# Altium integrated library NSC Audio.IntLib: 301 symbols (part 4 of 8)
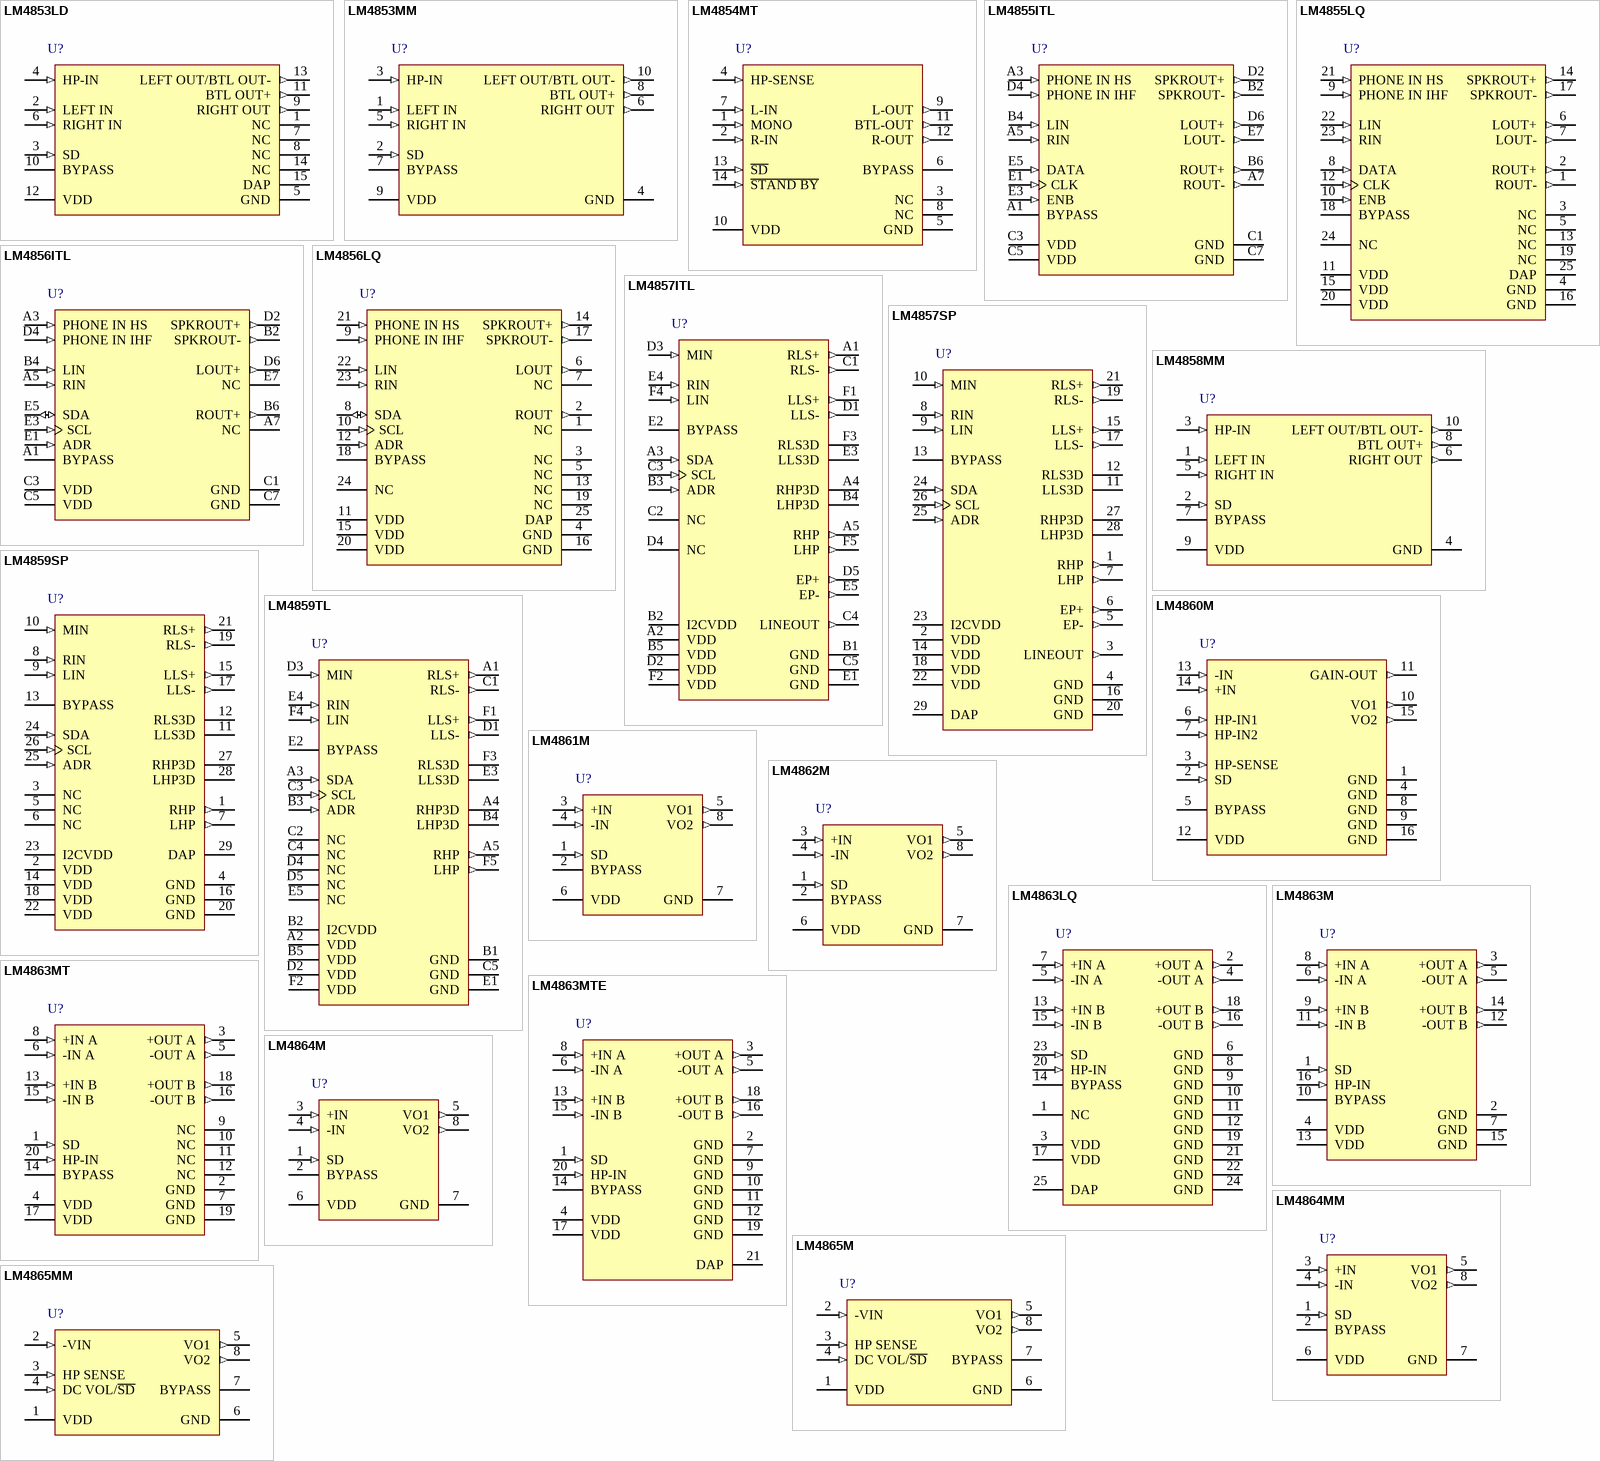
[diagram p15: symbols LM4853LD to LM4865MM]

## LM4859SP
designator U?
Stereo 1.2W Audio Sub-system with 3D Enhancement; PartNumber: LM4859SP; Manufacturer: National Semiconductor; CompType: Audio IC; PackageTopMarking: NS*UZXYTT*L4859SP; Published: 4-Dec-2008; DatasheetVersion: Jun-2005; PackageVersion: revA, Aug-2003; PackageReference: SPA28A; PackageDescription: LLP, Plastic, Quad, 5 x 5 x 0.6mm Body, 28 Lead, 0.5mm Pitch, No Pullback; RoHS: Y; PinCount: 28; DigiKeyPartNumber: LM4859SP-ND; Code_JEDEC: MO-220-WHHD-3; ComponentLink1Description: LM4859 Datasheet; ComponentLink1URL: http://www.national.com/ds/LM/LM4859.pdf; ComponentLink2Description: LM4859 Web Page; ComponentLink2URL: http://www.national.com/pf/LM/LM4859.html; ComponentLink3Description: SPA28A Package Page; ComponentLink3URL: http://www.national.com/packaging/folders/spa28a.html
footprint SPA28A (QFN, 28-Leads, Body 5x5mm, Pitch 0.5mm, NSC Recommended)
pins: 1 RHP (out), 2 VDD (power), 3 NC, 4 GND (power), 5 NC, 6 NC, 7 LHP (out), 8 RIN (in), 9 LIN (in), 10 MIN (in), 11 LLS3D, 12 RLS3D, 13 BYPASS, 14 VDD (power), 15 LLS+ (out), 16 GND (power), 17 LLS- (out), 18 VDD (power), 19 RLS- (out), 20 GND (power), 21 RLS+ (out), 22 VDD (power), 23 I2CVDD (power), 24 SDA (in), 25 ADR (in), 26 SCL (in), 27 RHP3D, 28 LHP3D, 29 DAP (power)

## LM4859TL
designator U?
Stereo 1.2W Audio Sub-system with 3D Enhancement; PartNumber: LM4859TL; Manufacturer: National Semiconductor; CompType: Audio IC; PackageTopMarking: XYTT*I GF1; Published: 4-Dec-2008; DatasheetVersion: Jun-2005; PackageVersion: revC, Dec-2003; PackageReference: TLA30CZA; PackageDescription: Thin Micro SMD, 30 Bump (Large), 0.5mm Pitch; RoHS: Y; PinCount: 30; DigiKeyPartNumber: LM4859TLCT-ND; Code_JEDEC: MO-211-DJ; ComponentLink1Description: LM4859 Datasheet; ComponentLink1URL: http://www.national.com/ds/LM/LM4859.pdf; ComponentLink2Description: LM4859 Web Page; ComponentLink2URL: http://www.national.com/pf/LM/LM4859.html; ComponentLink3Description: TLA30CZA Package Page; ComponentLink3URL: http://www.national.com/packaging/folders/tla30cza.html
footprint TLA30CZA (Micro SMD, 30-Leads, Body 2.95x2.55mm, Pitch 0.5mm, NSC Recommended)
pins: A1 RLS+ (out), A2 VDD (power), A3 SDA (in), A4 RHP3D, A5 RHP (out), B1 GND (power), B2 I2CVDD (power), B3 ADR (in), B4 LHP3D, B5 VDD (power), C1 RLS- (out), C2 NC, C3 SCL (in), C4 NC, C5 GND (power), D1 LLS- (out), D2 VDD (power), D3 MIN (in), D4 NC, D5 NC, E1 GND (power), E2 BYPASS, E3 LLS3D, E4 RIN (in), E5 NC, F1 LLS+ (out), F2 VDD (power), F3 RLS3D, F4 LIN (in), F5 LHP (out)

## LM4860M
designator U?
1 Watt Audio Power Amplifier with Shutdown Mode; PartNumber: LM4860M; Manufacturer: National Semiconductor; CompType: Audio IC; PackageTopMarking: NSUZXYTT*LM4860M; Published: 4-Dec-2008; DatasheetVersion: Aug-2000; PackageVersion: revJ, Aug-1995; PackageReference: M16A; PackageDescription: Molded Package, SO, .150in Wide, 16 Lead; RoHS: O; PinCount: 16; DigiKeyPartNumber: LM4860M-ND; Code_JEDEC: MS-012-AC; Code_IPC: SOIC127P600-16; ComponentLink1Description: LM4860 Datasheet; ComponentLink1URL: http://www.national.com/ds/LM/LM4860.pdf; ComponentLink2Description: LM4860 Web Page; ComponentLink2URL: http://www.national.com/pf/LM/LM4860.html; ComponentLink3Description: M16A Package Page; ComponentLink3URL: http://www.national.com/packaging/folders/m16a.html
footprint M16A_N (SOIC, 16-Leads, Body 9.9x3.9mm, Pitch 1.27mm, IPC Medium Density)
footprint M16A_L (SOIC, 16-Leads, Body 9.9x3.9mm, Pitch 1.27mm, IPC High Density)
footprint M16A_M (SOIC, 16-Leads, Body 9.9x3.9mm, Pitch 1.27mm, IPC Low Density)
pins: 1 GND (power), 2 SD (in), 3 HP-SENSE (in), 4 GND (power), 5 BYPASS, 6 HP-IN1 (in), 7 HP-IN2 (in), 8 GND (power), 9 GND (power), 10 VO1 (out), 11 GAIN-OUT (out), 12 VDD (power), 13 -IN (in), 14 +IN (in), 15 VO2 (out), 16 GND (power)

## LM4861M
designator U?
1.1W Audio Power Amplifier with Shutdown Mode; PartNumber: LM4861M; Manufacturer: National Semiconductor; CompType: Audio IC; PackageTopMarking: NSZXTT*LM*4861M; Published: 4-Dec-2008; DatasheetVersion: Feb-2003; PackageVersion: revL, Sep-2006; PackageReference: M08A; PackageDescription: SOIC Narrow, 4.9 x 3.9 x 1.45mm, 8 Lead, 1.27mm Pitch; RoHS: O; PinCount: 8; DigiKeyPartNumber: LM4861M-ND; Code_JEDEC: MS-012-AA; Code_IPC: SOIC127P600-8; ComponentLink1Description: LM4861 Datasheet; ComponentLink1URL: http://www.national.com/ds/LM/LM4861.pdf; ComponentLink2Description: LM4861 Web Page; ComponentLink2URL: http://www.national.com/pf/LM/LM4861.html; ComponentLink3Description: M08A Package Page; ComponentLink3URL: http://www.national.com/packaging/folders/m08a.html
footprint M08A_N (SOIC, 8-Leads, Body 4.9x3.9mm, Pitch 1.27mm, IPC Medium Density)
footprint M08A_L (SOIC, 8-Leads, Body 4.9x3.9mm, Pitch 1.27mm, IPC High Density)
footprint M08A_M (SOIC, 8-Leads, Body 4.9x3.9mm, Pitch 1.27mm, IPC Low Density)
pins: 1 SD (in), 2 BYPASS, 3 +IN (in), 4 -IN (in), 5 VO1 (out), 6 VDD (power), 7 GND (power), 8 VO2 (out)

## LM4862M
designator U?
675 mW Audio Power Amplifier with Shutdown Mode; PartNumber: LM4862M; Manufacturer: National Semiconductor; CompType: Audio IC; PackageTopMarking: NSZXTT*LM*4862M; Published: 4-Dec-2008; DatasheetVersion: Sep-2004; PackageVersion: revL, Sep-2006; PackageReference: M08A; PackageDescription: SOIC Narrow, 4.9 x 3.9 x 1.45mm, 8 Lead, 1.27mm Pitch; RoHS: Y; PinCount: 8; DigiKeyPartNumber: LM4862M-ND; Code_JEDEC: MS-012-AA; Code_IPC: SOIC127P600-8; ComponentLink1Description: LM4862 Datasheet; ComponentLink1URL: http://www.national.com/ds/LM/LM4862.pdf; ComponentLink2Description: LM4862 Web Page; ComponentLink2URL: http://www.national.com/pf/LM/LM4862.html; ComponentLink3Description: M08A Package Page; ComponentLink3URL: http://www.national.com/packaging/folders/m08a.html
footprint M08A_N (SOIC, 8-Leads, Body 4.9x3.9mm, Pitch 1.27mm, IPC Medium Density)
footprint M08A_L (SOIC, 8-Leads, Body 4.9x3.9mm, Pitch 1.27mm, IPC High Density)
footprint M08A_M (SOIC, 8-Leads, Body 4.9x3.9mm, Pitch 1.27mm, IPC Low Density)
pins: 1 SD (in), 2 BYPASS, 3 +IN (in), 4 -IN (in), 5 VO1 (out), 6 VDD (power), 7 GND (power), 8 VO2 (out)

## LM4863LQ
designator U?
Dual 2.2W Audio Amplifier Plus Stereo Headphone Function; PartNumber: LM4863LQ; Manufacturer: National Semiconductor; CompType: Audio IC; PackageTopMarking: NS*UZXYTT*L4863; Published: 4-Dec-2008; DatasheetVersion: Oct-2006; PackageVersion: revB, Sep-2003; PackageReference: LQA24A; PackageDescription: LLP, Plastic, Quad, 5 x 4 x 0.8mm Body, 24 Lead, 0.5mm Pitch; RoHS: Y; PinCount: 24; DigiKeyPartNumber: LM4863LQCT-ND; ComponentLink1Description: LM4863 Datasheet; ComponentLink1URL: http://www.national.com/ds/LM/LM4863.pdf; ComponentLink2Description: LM4863 Web Page; ComponentLink2URL: http://www.national.com/pf/LM/LM4863.html; ComponentLink3Description: LQA24A Package Page; ComponentLink3URL: http://www.national.com/packaging/folders/lqa24a.html
footprint LQA24A (PQFN, 24-Leads, Body 4x5mm, Pitch 0.5mm, NSC Recommended)
pins: 1 NC, 2 +OUT A (out), 3 VDD (power), 4 -OUT A (out), 5 -IN A (in), 6 GND (power), 7 +IN A (in), 8 GND (power), 9 GND (power), 10 GND (power), 11 GND (power), 12 GND (power), 13 +IN B (in), 14 BYPASS, 15 -IN B (in), 16 -OUT B (out), 17 VDD (power), 18 +OUT B (out), 19 GND (power), 20 HP-IN (in), 21 GND (power), 22 GND (power), 23 SD (in), 24 GND (power), 25 DAP (power)

## LM4863M
designator U?
Dual 2.2W Audio Amplifier Plus Stereo Headphone Function; PartNumber: LM4863M; Manufacturer: National Semiconductor; CompType: Audio IC; PackageTopMarking: NSUZXYTT*LM4863M; Published: 4-Dec-2008; DatasheetVersion: Oct-2006; PackageVersion: revF, Apr-1990; PackageReference: M16B; PackageDescription: Molded Package, S.O., .300in Wide, 16 Lead; RoHS: Y; PinCount: 16; DigiKeyPartNumber: LM4863M-ND; Code_JEDEC: MS-013-AA; Code_IPC: SOIC127P1030-16; ComponentLink1Description: LM4863 Datasheet; ComponentLink1URL: http://www.national.com/ds/LM/LM4863.pdf; ComponentLink2Description: LM4863 Web Page; ComponentLink2URL: http://www.national.com/pf/LM/LM4863.html; ComponentLink3Description: M16B Package Page; ComponentLink3URL: http://www.national.com/packaging/folders/m16b.html
footprint M16B_N (SOIC, 16-Leads, Body 10.3x7.5mm, Pitch 1.27mm, IPC Medium Density)
footprint M16B_L (SOIC, 16-Leads, Body 10.3x7.5mm, Pitch 1.27mm, IPC High Density)
footprint M16B_M (SOIC, 16-Leads, Body 10.3x7.5mm, Pitch 1.27mm, IPC Low Density)
pins: 1 SD (in), 2 GND (power), 3 +OUT A (out), 4 VDD (power), 5 -OUT A (out), 6 -IN A (in), 7 GND (power), 8 +IN A (in), 9 +IN B (in), 10 BYPASS, 11 -IN B (in), 12 -OUT B (out), 13 VDD (power), 14 +OUT B (out), 15 GND (power), 16 HP-IN (in)

## LM4863MT
designator U?
Dual 2.2W Audio Amplifier Plus Stereo Headphone Function; PartNumber: LM4863MT; Manufacturer: National Semiconductor; CompType: Audio IC; PackageTopMarking: NSUZXYTT*LM4863*MT; Published: 4-Dec-2008; DatasheetVersion: Oct-2006; PackageVersion: revE, Mar-2003; PackageReference: MTC20; PackageDescription: Molded TSSOP, Jedec, 6.5 x 4.4 x 0.9mm Body, 20 Lead, 0.65mm Pitch; RoHS: Y; PinCount: 20; DigiKeyPartNumber: LM4863MT-ND; Code_JEDEC: MO-153-AC; ComponentLink1Description: LM4863 Datasheet; ComponentLink1URL: http://www.national.com/ds/LM/LM4863.pdf; ComponentLink2Description: LM4863 Web Page; ComponentLink2URL: http://www.national.com/pf/LM/LM4863.html; ComponentLink3Description: MTC20 Package Page; ComponentLink3URL: http://www.national.com/packaging/folders/mtc20.html
footprint MTC20_N (TSOP, 20-Leads, Body 6.5x4.4mm, Pitch 0.65mm, IPC Medium Density)
footprint MTC20_L (TSOP, 20-Leads, Body 6.5x4.4mm, Pitch 0.65mm, IPC High Density)
footprint MTC20_M (TSOP, 20-Leads, Body 6.5x4.4mm, Pitch 0.65mm, IPC Low Density)
pins: 1 SD (in), 2 GND (power), 3 +OUT A (out), 4 VDD (power), 5 -OUT A (out), 6 -IN A (in), 7 GND (power), 8 +IN A (in), 9 NC, 10 NC, 11 NC, 12 NC, 13 +IN B (in), 14 BYPASS, 15 -IN B (in), 16 -OUT B (out), 17 VDD (power), 18 +OUT B (out), 19 GND (power), 20 HP-IN (in)

## LM4863MTE
designator U?
Dual 2.2W Audio Amplifier Plus Stereo Headphone Function; PartNumber: LM4863MTE; Manufacturer: National Semiconductor; CompType: Audio IC; PackageTopMarking: NSUZXYTT*LM4863*MTE; Published: 4-Dec-2008; DatasheetVersion: Oct-2006; PackageVersion: revC, Jul-2006; PackageReference: MXA20A; PackageDescription: Molded TSSOP, Jedec, 6.5 x 4.4 x 0.9mm Body, 20 Lead, 0.65mm Pitch, Exposed Pad; RoHS: Y; PinCount: 20; DigiKeyPartNumber: LM4863MTE-ND; Code_JEDEC: MO-153-ACT; ComponentLink1Description: LM4863 Datasheet; ComponentLink1URL: http://www.national.com/ds/LM/LM4863.pdf; ComponentLink2Description: LM4863 Web Page; ComponentLink2URL: http://www.national.com/pf/LM/LM4863.html; ComponentLink3Description: MXA20A Package Page; ComponentLink3URL: http://www.national.com/packaging/folders/mxa20a.html
footprint MXA20A_N (TSOP, 20-Leads, Body 6.5x4.4mm, Pitch 0.65mm, Exposed Pad, IPC Medium Density)
footprint MXA20A_L (TSOP, 20-Leads, Body 6.5x4.4mm, Pitch 0.65mm, Exposed Pad, IPC High Density)
footprint MXA20A_M (TSOP, 20-Leads, Body 6.5x4.4mm, Pitch 0.65mm, Exposed Pad, IPC Low Density)
pins: 1 SD (in), 2 GND (power), 3 +OUT A (out), 4 VDD (power), 5 -OUT A (out), 6 -IN A (in), 7 GND (power), 8 +IN A (in), 9 GND (power), 10 GND (power), 11 GND (power), 12 GND (power), 13 +IN B (in), 14 BYPASS, 15 -IN B (in), 16 -OUT B (out), 17 VDD (power), 18 +OUT B (out), 19 GND (power), 20 HP-IN (in), 21 DAP (power)

## LM4864M
designator U?
300 mW Audio Power Amplifier with Shutdown Mode; PartNumber: LM4864M; Manufacturer: National Semiconductor; CompType: Audio IC; PackageTopMarking: NSZXTT*LM48*64M; Published: 4-Dec-2008; DatasheetVersion: Sep-2004; PackageVersion: revL, Sep-2006; PackageReference: M08A; PackageDescription: SOIC Narrow, 4.9 x 3.9 x 1.45mm, 8 Lead, 1.27mm Pitch; RoHS: O; PinCount: 8; DigiKeyPartNumber: LM4864M-ND; Code_JEDEC: MS-012-AA; Code_IPC: SOIC127P600-8; ComponentLink1Description: LM4864 Datasheet; ComponentLink1URL: http://www.national.com/ds/LM/LM4864.pdf; ComponentLink2Description: LM4864 Web Page; ComponentLink2URL: http://www.national.com/pf/LM/LM4864.html; ComponentLink3Description: M08A Package Page; ComponentLink3URL: http://www.national.com/packaging/folders/m08a.html
footprint M08A_N (SOIC, 8-Leads, Body 4.9x3.9mm, Pitch 1.27mm, IPC Medium Density)
footprint M08A_L (SOIC, 8-Leads, Body 4.9x3.9mm, Pitch 1.27mm, IPC High Density)
footprint M08A_M (SOIC, 8-Leads, Body 4.9x3.9mm, Pitch 1.27mm, IPC Low Density)
pins: 1 SD (in), 2 BYPASS, 3 +IN (in), 4 -IN (in), 5 VO1 (out), 6 VDD (power), 7 GND (power), 8 VO2 (out)

## LM4864MM
designator U?
300 mW Audio Power Amplifier with Shutdown Mode; PartNumber: LM4864MM; Manufacturer: National Semiconductor; CompType: Audio IC; PackageTopMarking: ZXTT*Z64; Published: 4-Dec-2008; DatasheetVersion: Sep-2004; PackageVersion: revF, Apr-2008; PackageReference: MUA08A; PackageDescription: MINI SOIC, .118 x .118 x .034in, 8 Lead, .0256in Pitch; RoHS: Y; PinCount: 8; DigiKeyPartNumber: LM4864MMCT-ND; Code_JEDEC: MO-187-AA; ComponentLink1Description: LM4864 Datasheet; ComponentLink1URL: http://www.national.com/ds/LM/LM4864.pdf; ComponentLink2Description: LM4864 Web Page; ComponentLink2URL: http://www.national.com/pf/LM/LM4864.html; ComponentLink3Description: MUA08A Package Page; ComponentLink3URL: http://www.national.com/packaging/folders/mua08a.html
footprint MUA08A_N (TSOP, 8-Leads, Body 3x3mm, Pitch 0.65mm, IPC Medium Density)
footprint MUA08A_L (TSOP, 8-Leads, Body 3x3mm, Pitch 0.65mm, IPC High Density)
footprint MUA08A_M (TSOP, 8-Leads, Body 3x3mm, Pitch 0.65mm, IPC Low Density)
pins: 1 SD (in), 2 BYPASS, 3 +IN (in), 4 -IN (in), 5 VO1 (out), 6 VDD (power), 7 GND (power), 8 VO2 (out)

## LM4865M
designator U?
750mW Audio Power Amplifier with DC Volume Control and Headphone Switch; PartNumber: LM4865M; Manufacturer: National Semiconductor; CompType: Audio IC; PackageTopMarking: NSZXTT*LM48*65M; Published: 4-Dec-2008; DatasheetVersion: Oct-2002; PackageVersion: revL, Sep-2006; PackageReference: M08A; PackageDescription: SOIC Narrow, 4.9 x 3.9 x 1.45mm, 8 Lead, 1.27mm Pitch; RoHS: Y; PinCount: 8; DigiKeyPartNumber: LM4865M-ND; Code_JEDEC: MS-012-AA; Code_IPC: SOIC127P600-8; ComponentLink1Description: LM4865 Datasheet; ComponentLink1URL: http://www.national.com/ds/LM/LM4865.pdf; ComponentLink2Description: LM4865 Web Page; ComponentLink2URL: http://www.national.com/pf/LM/LM4865.html; ComponentLink3Description: M08A Package Page; ComponentLink3URL: http://www.national.com/packaging/folders/m08a.html
footprint M08A_N (SOIC, 8-Leads, Body 4.9x3.9mm, Pitch 1.27mm, IPC Medium Density)
footprint M08A_L (SOIC, 8-Leads, Body 4.9x3.9mm, Pitch 1.27mm, IPC High Density)
footprint M08A_M (SOIC, 8-Leads, Body 4.9x3.9mm, Pitch 1.27mm, IPC Low Density)
pins: 1 VDD (power), 2 -VIN (in), 3 HP SENSE (in), 4 DC VOL/~{SD} (in), 5 VO1 (out), 6 GND (power), 7 BYPASS, 8 VO2 (out)

## LM4865MM
designator U?
750mW Audio Power Amplifier with DC Volume Control and Headphone Switch; PartNumber: LM4865MM; Manufacturer: National Semiconductor; CompType: Audio IC; PackageTopMarking: ZXTT*Z65; Published: 4-Dec-2008; DatasheetVersion: Oct-2002; PackageVersion: revF, Apr-2008; PackageReference: MUA08A; PackageDescription: MINI SOIC, .118 x .118 x .034in, 8 Lead, .0256in Pitch; RoHS: Y; PinCount: 8; DigiKeyPartNumber: LM4865MMCT-ND; Code_JEDEC: MO-187-AA; ComponentLink1Description: LM4865 Datasheet; ComponentLink1URL: http://www.national.com/ds/LM/LM4865.pdf; ComponentLink2Description: LM4865 Web Page; ComponentLink2URL: http://www.national.com/pf/LM/LM4865.html; ComponentLink3Description: MUA08A Package Page; ComponentLink3URL: http://www.national.com/packaging/folders/mua08a.html
footprint MUA08A_N (TSOP, 8-Leads, Body 3x3mm, Pitch 0.65mm, IPC Medium Density)
footprint MUA08A_L (TSOP, 8-Leads, Body 3x3mm, Pitch 0.65mm, IPC High Density)
footprint MUA08A_M (TSOP, 8-Leads, Body 3x3mm, Pitch 0.65mm, IPC Low Density)
pins: 1 VDD (power), 2 -VIN (in), 3 HP SENSE (in), 4 DC VOL/~{SD} (in), 5 VO1 (out), 6 GND (power), 7 BYPASS, 8 VO2 (out)

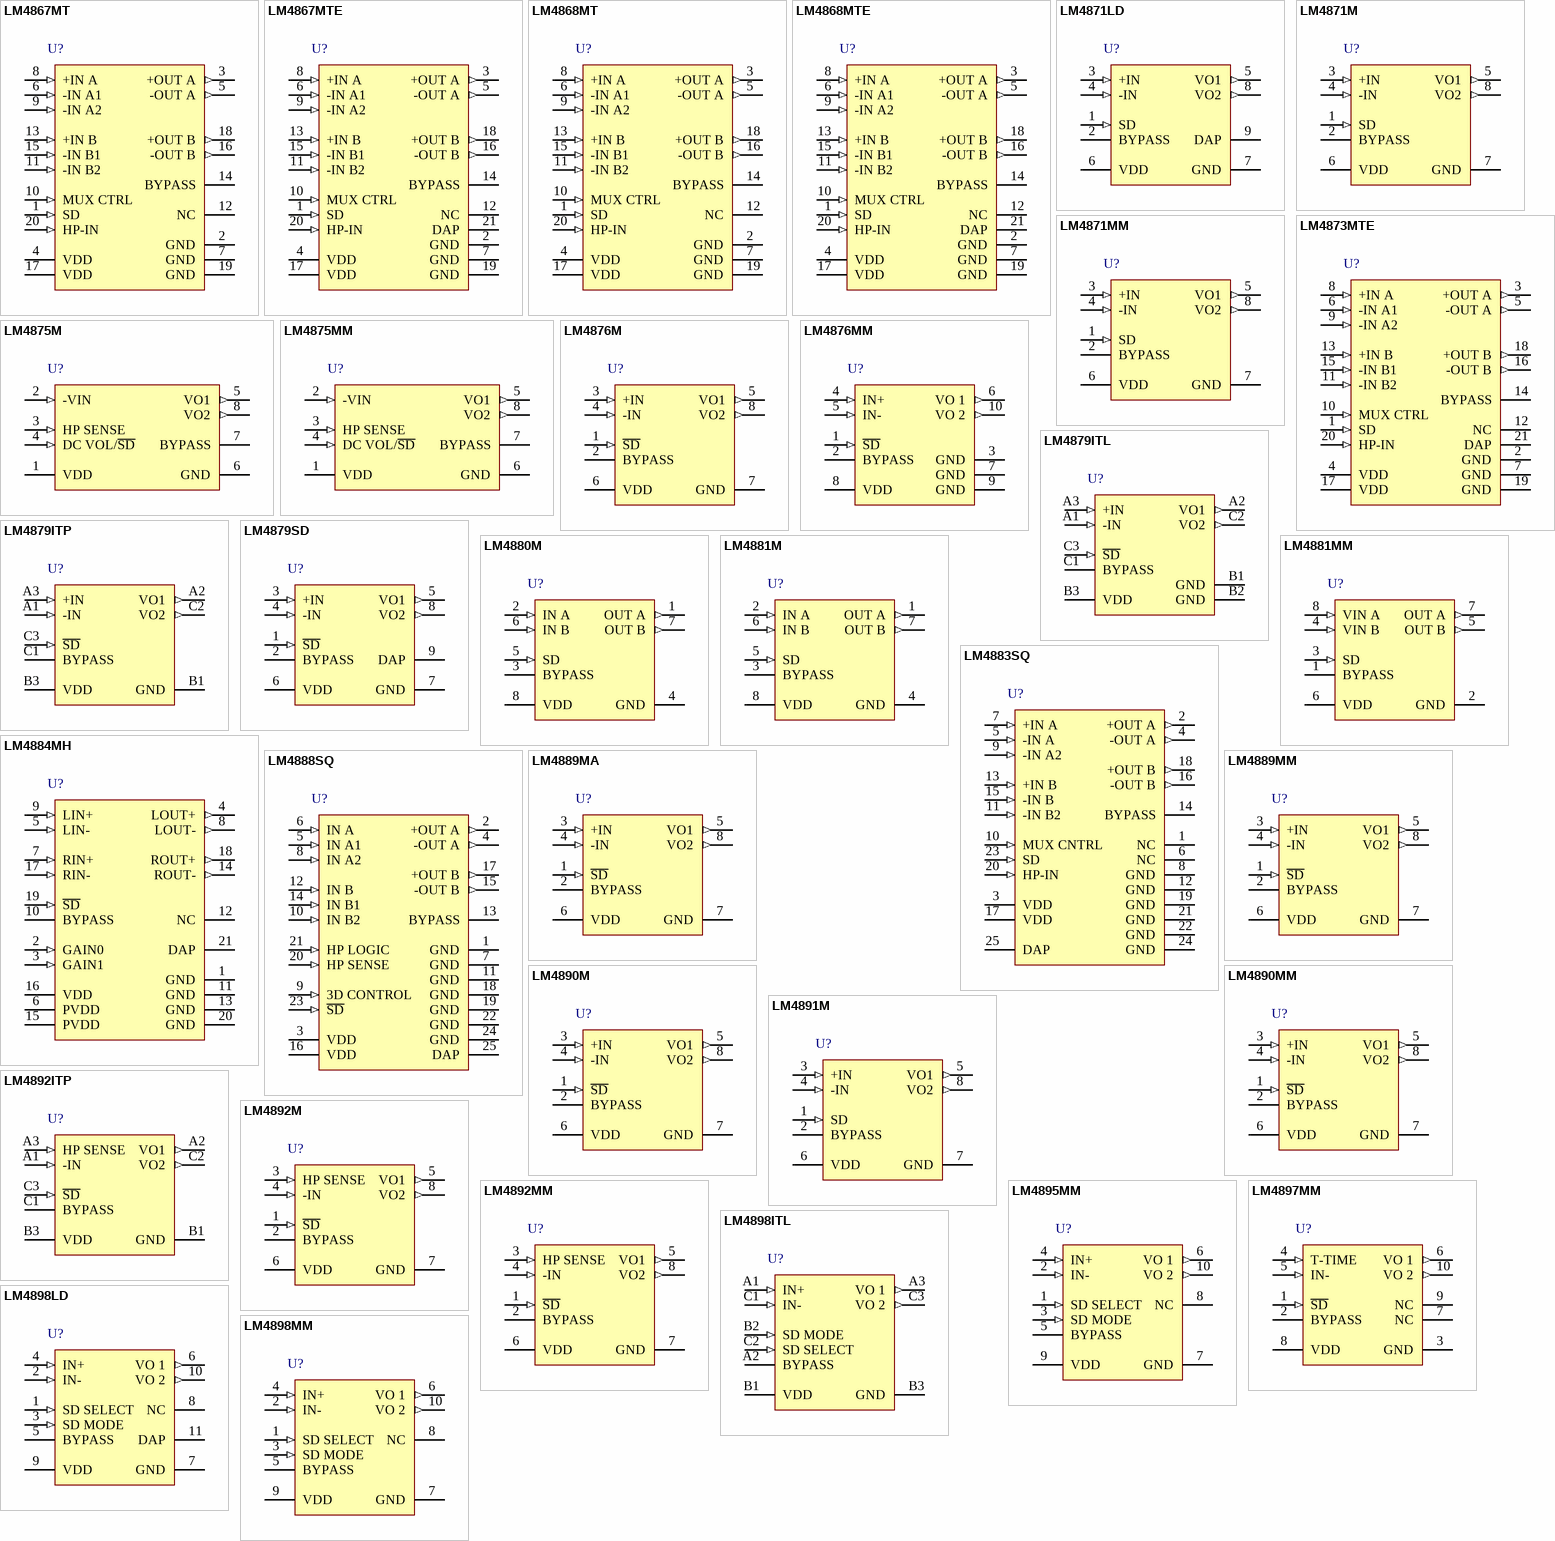
[diagram p6: symbols LM4867MT to LM4898MM]

## LM4867MT
designator U?
Output-Transient-Free Dual 2.1W Audio Amplifier Plus No Coupling Capacitor Stereo Headphone Function; PartNumber: LM4867MT; Manufacturer: National Semiconductor; CompType: Audio IC; PackageTopMarking: NSUZXYTT*LM4867*MT; Published: 4-Dec-2008; DatasheetVersion: Aug-2002; PackageVersion: revE, Mar-2003; PackageReference: MTC20; PackageDescription: Molded TSSOP, Jedec, 6.5 x 4.4 x 0.9mm Body, 20 Lead, 0.65mm Pitch; RoHS: Y; PinCount: 20; DigiKeyPartNumber: LM4867MT-ND; Code_JEDEC: MO-153-AC; ComponentLink1Description: LM4867 Datasheet; ComponentLink1URL: http://www.national.com/ds/LM/LM4867.pdf; ComponentLink2Description: LM4867 Web Page; ComponentLink2URL: http://www.national.com/pf/LM/LM4867.html; ComponentLink3Description: MTC20 Package Page; ComponentLink3URL: http://www.national.com/packaging/folders/mtc20.html
footprint MTC20_N (TSOP, 20-Leads, Body 6.5x4.4mm, Pitch 0.65mm, IPC Medium Density)
footprint MTC20_L (TSOP, 20-Leads, Body 6.5x4.4mm, Pitch 0.65mm, IPC High Density)
footprint MTC20_M (TSOP, 20-Leads, Body 6.5x4.4mm, Pitch 0.65mm, IPC Low Density)
pins: 1 SD (in), 2 GND (power), 3 +OUT A (out), 4 VDD (power), 5 -OUT A (out), 6 -IN A1 (in), 7 GND (power), 8 +IN A (in), 9 -IN A2 (in), 10 MUX CTRL (in), 11 -IN B2 (in), 12 NC, 13 +IN B (in), 14 BYPASS, 15 -IN B1 (in), 16 -OUT B (out), 17 VDD (power), 18 +OUT B (out), 19 GND (power), 20 HP-IN (in)

## LM4867MTE
designator U?
Output-Transient-Free Dual 2.1W Audio Amplifier Plus No Coupling Capacitor Stereo Headphone Function; PartNumber: LM4867MTE; Manufacturer: National Semiconductor; CompType: Audio IC; PackageTopMarking: NSUZXYTT*LM4867*MTE; Published: 4-Dec-2008; DatasheetVersion: Aug-2002; PackageVersion: revC, Jul-2006; PackageReference: MXA20A; PackageDescription: Molded TSSOP, Jedec, 6.5 x 4.4 x 0.9mm Body, 20 Lead, 0.65mm Pitch, Exposed Pad; RoHS: O; PinCount: 20; DigiKeyPartNumber: LM4867MTE-ND; Code_JEDEC: MO-153-ACT; ComponentLink1Description: LM4867 Datasheet; ComponentLink1URL: http://www.national.com/ds/LM/LM4867.pdf; ComponentLink2Description: LM4867 Web Page; ComponentLink2URL: http://www.national.com/pf/LM/LM4867.html; ComponentLink3Description: MXA20A Package Page; ComponentLink3URL: http://www.national.com/packaging/folders/mxa20a.html
footprint MXA20A_N (TSOP, 20-Leads, Body 6.5x4.4mm, Pitch 0.65mm, Exposed Pad, IPC Medium Density)
footprint MXA20A_L (TSOP, 20-Leads, Body 6.5x4.4mm, Pitch 0.65mm, Exposed Pad, IPC High Density)
footprint MXA20A_M (TSOP, 20-Leads, Body 6.5x4.4mm, Pitch 0.65mm, Exposed Pad, IPC Low Density)
pins: 1 SD (in), 2 GND (power), 3 +OUT A (out), 4 VDD (power), 5 -OUT A (out), 6 -IN A1 (in), 7 GND (power), 8 +IN A (in), 9 -IN A2 (in), 10 MUX CTRL (in), 11 -IN B2 (in), 12 NC, 13 +IN B (in), 14 BYPASS, 15 -IN B1 (in), 16 -OUT B (out), 17 VDD (power), 18 +OUT B (out), 19 GND (power), 20 HP-IN (in), 21 DAP (power)

## LM4868MT
designator U?
Output-Transient-Free Dual 2.1W Audio Amplifier Plus No Coupling Capacitor Stereo Headphone Function; PartNumber: LM4868MT; Manufacturer: National Semiconductor; CompType: Audio IC; PackageTopMarking: NSUZXYTT*LM4868*MT; Published: 4-Dec-2008; DatasheetVersion: Aug-2002; PackageVersion: revE, Mar-2003; PackageReference: MTC20; PackageDescription: Molded TSSOP, Jedec, 6.5 x 4.4 x 0.9mm Body, 20 Lead, 0.65mm Pitch; RoHS: Y; PinCount: 20; DigiKeyPartNumber: LM4868MT-ND; Code_JEDEC: MO-153-AC; ComponentLink1Description: LM4868 Datasheet; ComponentLink1URL: http://www.national.com/ds/LM/LM4868.pdf; ComponentLink2Description: LM4868 Web Page; ComponentLink2URL: http://www.national.com/pf/LM/LM4868.html; ComponentLink3Description: MTC20 Package Page; ComponentLink3URL: http://www.national.com/packaging/folders/mtc20.html
footprint MTC20_N (TSOP, 20-Leads, Body 6.5x4.4mm, Pitch 0.65mm, IPC Medium Density)
footprint MTC20_L (TSOP, 20-Leads, Body 6.5x4.4mm, Pitch 0.65mm, IPC High Density)
footprint MTC20_M (TSOP, 20-Leads, Body 6.5x4.4mm, Pitch 0.65mm, IPC Low Density)
pins: 1 SD (in), 2 GND (power), 3 +OUT A (out), 4 VDD (power), 5 -OUT A (out), 6 -IN A1 (in), 7 GND (power), 8 +IN A (in), 9 -IN A2 (in), 10 MUX CTRL (in), 11 -IN B2 (in), 12 NC, 13 +IN B (in), 14 BYPASS, 15 -IN B1 (in), 16 -OUT B (out), 17 VDD (power), 18 +OUT B (out), 19 GND (power), 20 HP-IN (in)

## LM4868MTE
designator U?
Output-Transient-Free Dual 2.1W Audio Amplifier Plus No Coupling Capacitor Stereo Headphone Function; PartNumber: LM4868MTE; Manufacturer: National Semiconductor; CompType: Audio IC; PackageTopMarking: NSUZXYTT*LM4868*MTE; Published: 4-Dec-2008; DatasheetVersion: Aug-2002; PackageVersion: revC, Jul-2006; PackageReference: MXA20A; PackageDescription: Molded TSSOP, Jedec, 6.5 x 4.4 x 0.9mm Body, 20 Lead, 0.65mm Pitch, Exposed Pad; RoHS: Y; PinCount: 20; DigiKeyPartNumber: LM4868MTE-ND; Code_JEDEC: MO-153-ACT; ComponentLink1Description: LM4868 Datasheet; ComponentLink1URL: http://www.national.com/ds/LM/LM4868.pdf; ComponentLink2Description: LM4868 Web Page; ComponentLink2URL: http://www.national.com/pf/LM/LM4868.html; ComponentLink3Description: MXA20A Package Page; ComponentLink3URL: http://www.national.com/packaging/folders/mxa20a.html
footprint MXA20A_N (TSOP, 20-Leads, Body 6.5x4.4mm, Pitch 0.65mm, Exposed Pad, IPC Medium Density)
footprint MXA20A_L (TSOP, 20-Leads, Body 6.5x4.4mm, Pitch 0.65mm, Exposed Pad, IPC High Density)
footprint MXA20A_M (TSOP, 20-Leads, Body 6.5x4.4mm, Pitch 0.65mm, Exposed Pad, IPC Low Density)
pins: 1 SD (in), 2 GND (power), 3 +OUT A (out), 4 VDD (power), 5 -OUT A (out), 6 -IN A1 (in), 7 GND (power), 8 +IN A (in), 9 -IN A2 (in), 10 MUX CTRL (in), 11 -IN B2 (in), 12 NC, 13 +IN B (in), 14 BYPASS, 15 -IN B1 (in), 16 -OUT B (out), 17 VDD (power), 18 +OUT B (out), 19 GND (power), 20 HP-IN (in), 21 DAP (power)

## LM4871LD
designator U?
3W Audio Power Amplifier with Shutdown Mode; PartNumber: LM4871LD; Manufacturer: National Semiconductor; CompType: Audio IC; PackageTopMarking: NS*UZXYTT*L4871; Published: 4-Dec-2008; DatasheetVersion: Jan-2003; PackageVersion: revB, Jun-2003; PackageReference: LDC08A; PackageDescription: LLP, Plastic, Dual, 4 x 4 x 0.75mm Body, 8 Lead, 0.8mm Pitch; RoHS: O; PinCount: 8; DigiKeyPartNumber: LM4871LDCT-ND; ComponentLink1Description: LM4871 Datasheet; ComponentLink1URL: http://www.national.com/ds/LM/LM4871.pdf; ComponentLink2Description: LM4871 Web Page; ComponentLink2URL: http://www.national.com/pf/LM/LM4871.html; ComponentLink3Description: LDC08A Package Page; ComponentLink3URL: http://www.national.com/packaging/folders/ldc08a.html
footprint LDC08A (PSON, 8-Leads, Body 4x4mm, Pitch 0.8mm, NSC Recommended)
pins: 1 SD (in), 2 BYPASS, 3 +IN (in), 4 -IN (in), 5 VO1 (out), 6 VDD (power), 7 GND (power), 8 VO2 (out), 9 DAP (power)

## LM4871M
designator U?
3W Audio Power Amplifier with Shutdown Mode; PartNumber: LM4871M; Manufacturer: National Semiconductor; CompType: Audio IC; PackageTopMarking: NSZXTT*4871; Published: 4-Dec-2008; DatasheetVersion: Jan-2003; PackageVersion: revL, Sep-2006; PackageReference: M08A; PackageDescription: SOIC Narrow, 4.9 x 3.9 x 1.45mm, 8 Lead, 1.27mm Pitch; RoHS: O; PinCount: 8; DigiKeyPartNumber: LM4871M-ND; Code_JEDEC: MS-012-AA; Code_IPC: SOIC127P600-8; ComponentLink1Description: LM4871 Datasheet; ComponentLink1URL: http://www.national.com/ds/LM/LM4871.pdf; ComponentLink2Description: LM4871 Web Page; ComponentLink2URL: http://www.national.com/pf/LM/LM4871.html; ComponentLink3Description: M08A Package Page; ComponentLink3URL: http://www.national.com/packaging/folders/m08a.html
footprint M08A_N (SOIC, 8-Leads, Body 4.9x3.9mm, Pitch 1.27mm, IPC Medium Density)
footprint M08A_L (SOIC, 8-Leads, Body 4.9x3.9mm, Pitch 1.27mm, IPC High Density)
footprint M08A_M (SOIC, 8-Leads, Body 4.9x3.9mm, Pitch 1.27mm, IPC Low Density)
pins: 1 SD (in), 2 BYPASS, 3 +IN (in), 4 -IN (in), 5 VO1 (out), 6 VDD (power), 7 GND (power), 8 VO2 (out)

## LM4871MM
designator U?
3W Audio Power Amplifier with Shutdown Mode; PartNumber: LM4871MM; Manufacturer: National Semiconductor; CompType: Audio IC; PackageTopMarking: ZXTT*G71; Published: 4-Dec-2008; DatasheetVersion: Jan-2003; PackageVersion: revF, Apr-2008; PackageReference: MUA08A; PackageDescription: MINI SOIC, .118 x .118 x .034in, 8 Lead, .0256in Pitch; RoHS: O; PinCount: 8; DigiKeyPartNumber: LM4871MMCT-ND; Code_JEDEC: MO-187-AA; ComponentLink1Description: LM4871 Datasheet; ComponentLink1URL: http://www.national.com/ds/LM/LM4871.pdf; ComponentLink2Description: LM4871 Web Page; ComponentLink2URL: http://www.national.com/pf/LM/LM4871.html; ComponentLink3Description: MUA08A Package Page; ComponentLink3URL: http://www.national.com/packaging/folders/mua08a.html
footprint MUA08A_N (TSOP, 8-Leads, Body 3x3mm, Pitch 0.65mm, IPC Medium Density)
footprint MUA08A_L (TSOP, 8-Leads, Body 3x3mm, Pitch 0.65mm, IPC High Density)
footprint MUA08A_M (TSOP, 8-Leads, Body 3x3mm, Pitch 0.65mm, IPC Low Density)
pins: 1 SD (in), 2 BYPASS, 3 +IN (in), 4 -IN (in), 5 VO1 (out), 6 VDD (power), 7 GND (power), 8 VO2 (out)

## LM4873MTE
designator U?
Dual 2.1W Audio Amplifier Plus Stereo Headphone Function; PartNumber: LM4873MTE; Manufacturer: National Semiconductor; CompType: Audio IC; PackageTopMarking: NSUZXYTT*LM4873*MTE; Published: 4-Dec-2008; DatasheetVersion: Oct-2002; PackageVersion: revC, Jul-2006; PackageReference: MXA20A; PackageDescription: Molded TSSOP, Jedec, 6.5 x 4.4 x 0.9mm Body, 20 Lead, 0.65mm Pitch, Exposed Pad; RoHS: Y; PinCount: 20; DigiKeyPartNumber: LM4873MTE-ND; Code_JEDEC: MO-153-ACT; ComponentLink1Description: LM4873 Datasheet; ComponentLink1URL: http://www.national.com/ds/LM/LM4873.pdf; ComponentLink2Description: LM4873 Web Page; ComponentLink2URL: http://www.national.com/pf/LM/LM4873.html; ComponentLink3Description: MXA20A Package Page; ComponentLink3URL: http://www.national.com/packaging/folders/mxa20a.html
footprint MXA20A_N (TSOP, 20-Leads, Body 6.5x4.4mm, Pitch 0.65mm, Exposed Pad, IPC Medium Density)
footprint MXA20A_L (TSOP, 20-Leads, Body 6.5x4.4mm, Pitch 0.65mm, Exposed Pad, IPC High Density)
footprint MXA20A_M (TSOP, 20-Leads, Body 6.5x4.4mm, Pitch 0.65mm, Exposed Pad, IPC Low Density)
pins: 1 SD (in), 2 GND (power), 3 +OUT A (out), 4 VDD (power), 5 -OUT A (out), 6 -IN A1 (in), 7 GND (power), 8 +IN A (in), 9 -IN A2 (in), 10 MUX CTRL (in), 11 -IN B2 (in), 12 NC, 13 +IN B (in), 14 BYPASS, 15 -IN B1 (in), 16 -OUT B (out), 17 VDD (power), 18 +OUT B (out), 19 GND (power), 20 HP-IN (in), 21 DAP (power)

## LM4875M
designator U?
750mW Audio Power Amplifier with DC Volume Control and Headphone Switch; PartNumber: LM4875M; Manufacturer: National Semiconductor; CompType: Audio IC; PackageTopMarking: NSZXTT*LM48*75M; Published: 4-Dec-2008; DatasheetVersion: Jan-2002; PackageVersion: revL, Sep-2006; PackageReference: M08A; PackageDescription: SOIC Narrow, 4.9 x 3.9 x 1.45mm, 8 Lead, 1.27mm Pitch; RoHS: Y; PinCount: 8; DigiKeyPartNumber: LM4875M-ND; Code_JEDEC: MS-012-AA; Code_IPC: SOIC127P600-8; ComponentLink1Description: LM4875 Datasheet; ComponentLink1URL: http://www.national.com/ds/LM/LM4875.pdf; ComponentLink2Description: LM4875 Web Page; ComponentLink2URL: http://www.national.com/pf/LM/LM4875.html; ComponentLink3Description: M08A Package Page; ComponentLink3URL: http://www.national.com/packaging/folders/m08a.html
footprint M08A_N (SOIC, 8-Leads, Body 4.9x3.9mm, Pitch 1.27mm, IPC Medium Density)
footprint M08A_L (SOIC, 8-Leads, Body 4.9x3.9mm, Pitch 1.27mm, IPC High Density)
footprint M08A_M (SOIC, 8-Leads, Body 4.9x3.9mm, Pitch 1.27mm, IPC Low Density)
pins: 1 VDD (power), 2 -VIN (in), 3 HP SENSE (in), 4 DC VOL/~{SD} (in), 5 VO1 (out), 6 GND (power), 7 BYPASS, 8 VO2 (out)

## LM4875MM
designator U?
750mW Audio Power Amplifier with DC Volume Control and Headphone Switch; PartNumber: LM4875MM; Manufacturer: National Semiconductor; CompType: Audio IC; PackageTopMarking: ZXTT*G75; Published: 4-Dec-2008; DatasheetVersion: Jan-2002; PackageVersion: revF, Apr-2008; PackageReference: MUA08A; PackageDescription: MINI SOIC, .118 x .118 x .034in, 8 Lead, .0256in Pitch; RoHS: Y; PinCount: 8; DigiKeyPartNumber: LM4875MM-ND; Code_JEDEC: MO-187-AA; ComponentLink1Description: LM4875 Datasheet; ComponentLink1URL: http://www.national.com/ds/LM/LM4875.pdf; ComponentLink2Description: LM4875 Web Page; ComponentLink2URL: http://www.national.com/pf/LM/LM4875.html; ComponentLink3Description: MUA08A Package Page; ComponentLink3URL: http://www.national.com/packaging/folders/mua08a.html
footprint MUA08A_N (TSOP, 8-Leads, Body 3x3mm, Pitch 0.65mm, IPC Medium Density)
footprint MUA08A_L (TSOP, 8-Leads, Body 3x3mm, Pitch 0.65mm, IPC High Density)
footprint MUA08A_M (TSOP, 8-Leads, Body 3x3mm, Pitch 0.65mm, IPC Low Density)
pins: 1 VDD (power), 2 -VIN (in), 3 HP SENSE (in), 4 DC VOL/~{SD} (in), 5 VO1 (out), 6 GND (power), 7 BYPASS, 8 VO2 (out)

## LM4876M
designator U?
1.1W Audio Power Amplifier with Logic Low Shutdown; PartNumber: LM4876M; Manufacturer: National Semiconductor; CompType: Audio IC; PackageTopMarking: NSZXTT*LM487*6M; Published: 4-Dec-2008; DatasheetVersion: Mar-2003; PackageVersion: revL, Sep-2006; PackageReference: M08A; PackageDescription: SOIC Narrow, 4.9 x 3.9 x 1.45mm, 8 Lead, 1.27mm Pitch; RoHS: Y; PinCount: 8; DigiKeyPartNumber: LM4876M-ND; Code_JEDEC: MS-012-AA; Code_IPC: SOIC127P600-8; ComponentLink1Description: LM4876 Datasheet; ComponentLink1URL: http://www.national.com/ds/LM/LM4876.pdf; ComponentLink2Description: LM4876 Web Page; ComponentLink2URL: http://www.national.com/pf/LM/LM4876.html; ComponentLink3Description: M08A Package Page; ComponentLink3URL: http://www.national.com/packaging/folders/m08a.html
footprint M08A_N (SOIC, 8-Leads, Body 4.9x3.9mm, Pitch 1.27mm, IPC Medium Density)
footprint M08A_L (SOIC, 8-Leads, Body 4.9x3.9mm, Pitch 1.27mm, IPC High Density)
footprint M08A_M (SOIC, 8-Leads, Body 4.9x3.9mm, Pitch 1.27mm, IPC Low Density)
pins: 1 ~{SD} (in), 2 BYPASS, 3 +IN (in), 4 -IN (in), 5 VO1 (out), 6 VDD (power), 7 GND (power), 8 VO2 (out)

## LM4876MM
designator U?
1.1W Audio Power Amplifier with Logic Low Shutdown; PartNumber: LM4876MM; Manufacturer: National Semiconductor; CompType: Audio IC; PackageTopMarking: ZXTT*G76; Published: 4-Dec-2008; DatasheetVersion: Mar-2003; PackageVersion: revB, Jul-2003; PackageReference: MUB10A; PackageDescription: Mini-SO, Molded, .118 x .118 x .034in Body, 10 Lead, .0197in Pitch; RoHS: Y; PinCount: 10; DigiKeyPartNumber: LM4876MMCT-ND; Code_JEDEC: MO-187-BA; ComponentLink1Description: LM4876 Datasheet; ComponentLink1URL: http://www.national.com/ds/LM/LM4876.pdf; ComponentLink2Description: LM4876 Web Page; ComponentLink2URL: http://www.national.com/pf/LM/LM4876.html; ComponentLink3Description: MUB10A Package Page; ComponentLink3URL: http://www.national.com/packaging/folders/mub10a.html
footprint MUB10A_N (TSSOP, 10-Leads, Body 3x3mm, Pitch 0.5mm, IPC Medium Density)
footprint MUB10A_L (TSSOP, 10-Leads, Body 3x3mm, Pitch 0.5mm, IPC High Density)
footprint MUB10A_M (TSSOP, 10-Leads, Body 3x3mm, Pitch 0.5mm, IPC Low Density)
pins: 1 ~{SD} (in), 2 BYPASS, 3 GND (power), 4 IN+ (in), 5 IN- (in), 6 VO 1 (out), 7 GND (power), 8 VDD (power), 9 GND (power), 10 VO 2 (out)

## LM4879ITL
designator U?
1.1 Watt Audio Power Amplifier; PartNumber: LM4879ITL; Manufacturer: National Semiconductor; CompType: Audio IC; PackageTopMarking: XVG*I B3; Published: 4-Dec-2008; DatasheetVersion: Oct-2004; PackageVersion: revC, Jan-2004; PackageReference: TLA09AAA; PackageDescription: Thin Micro SMD, 9 Bump (Large), 0.5mm Pitch; RoHS: Y; PinCount: 9; DigiKeyPartNumber: LM4879ITLCT-ND; Code_JEDEC: MO-211-DD; ComponentLink1Description: LM4879 Datasheet; ComponentLink1URL: http://www.national.com/ds/LM/LM4879.pdf; ComponentLink2Description: LM4879 Web Page; ComponentLink2URL: http://www.national.com/pf/LM/LM4879.html; ComponentLink3Description: TLA09AAA Package Page; ComponentLink3URL: http://www.national.com/packaging/folders/tla09aaa.html
footprint TLA09AAA (Micro SMD, 9-Leads, Body 1.52x1.52mm, Pitch 0.5mm, NSC Recommended)
pins: A1 -IN (in), A2 VO1 (out), A3 +IN (in), B1 GND (power), B2 GND (power), B3 VDD (power), C1 BYPASS, C2 VO2 (out), C3 ~{SD} (in)

## LM4879ITP
designator U?
1.1 Watt Audio Power Amplifier; PartNumber: LM4879ITP; Manufacturer: National Semiconductor; CompType: Audio IC; PackageTopMarking: XVG*I D3; Published: 4-Dec-2008; DatasheetVersion: Oct-2004; PackageVersion: revA, Mar-2002; PackageReference: TPA08DDA; PackageDescription: Thin Micro SMD, 8 Bump, 0.5mm Pitch; RoHS: Y; PinCount: 8; DigiKeyPartNumber: LM4879ITPCT-ND; Code_JEDEC: MO-211-BC; ComponentLink1Description: LM4879 Datasheet; ComponentLink1URL: http://www.national.com/ds/LM/LM4879.pdf; ComponentLink2Description: LM4879 Web Page; ComponentLink2URL: http://www.national.com/pf/LM/LM4879.html; ComponentLink3Description: TPA08DDA Package Page; ComponentLink3URL: http://www.national.com/packaging/folders/tpa08dda.html
footprint TPA08DDA (Micro SMD, 8-Leads, Body 1.36x1.36mm, Pitch 0.5mm, NSC Recommended)
pins: A1 -IN (in), A2 VO1 (out), A3 +IN (in), B1 GND (power), B3 VDD (power), C1 BYPASS, C2 VO2 (out), C3 ~{SD} (in)

## LM4879SD
designator U?
1.1 Watt Audio Power Amplifier; PartNumber: LM4879SD; Manufacturer: National Semiconductor; CompType: Audio IC; PackageTopMarking: NS*UZXYTT*L4879SD; Published: 4-Dec-2008; DatasheetVersion: Oct-2004; PackageVersion: revA, Jun-2003; PackageReference: SDC08A; PackageDescription: LLP, Plastic, Dual, 4 x 4 x 0.8mm Body, 8 Lead, 0.8mm Pitch, No Pullback; RoHS: Y; PinCount: 8; DigiKeyPartNumber: LM4879SDCT-ND; ComponentLink1Description: LM4879 Datasheet; ComponentLink1URL: http://www.national.com/ds/LM/LM4879.pdf; ComponentLink2Description: LM4879 Web Page; ComponentLink2URL: http://www.national.com/pf/LM/LM4879.html; ComponentLink3Description: SDC08A Package Page; ComponentLink3URL: http://www.national.com/packaging/folders/sdc08a.html
footprint SDC08A (SON, 8-Leads, Body 4x4mm, Pitch 0.8mm, NSC Recommended)
pins: 1 ~{SD} (in), 2 BYPASS, 3 +IN (in), 4 -IN (in), 5 VO1 (out), 6 VDD (power), 7 GND (power), 8 VO2 (out), 9 DAP (power)

## LM4880M
designator U?
Dual 200 mW Audio Power Amplifier with Shutdown Mode; PartNumber: LM4880M; Manufacturer: National Semiconductor; CompType: Audio IC; PackageTopMarking: NSZXTT*LM*4880M; Published: 4-Dec-2008; DatasheetVersion: Sep-2004; PackageVersion: revL, Sep-2006; PackageReference: M08A; PackageDescription: SOIC Narrow, 4.9 x 3.9 x 1.45mm, 8 Lead, 1.27mm Pitch; RoHS: O; PinCount: 8; DigiKeyPartNumber: LM4880M-ND; Code_JEDEC: MS-012-AA; Code_IPC: SOIC127P600-8; ComponentLink1Description: LM4880 Datasheet; ComponentLink1URL: http://www.national.com/ds/LM/LM4880.pdf; ComponentLink2Description: LM4880 Web Page; ComponentLink2URL: http://www.national.com/pf/LM/LM4880.html; ComponentLink3Description: M08A Package Page; ComponentLink3URL: http://www.national.com/packaging/folders/m08a.html
footprint M08A_N (SOIC, 8-Leads, Body 4.9x3.9mm, Pitch 1.27mm, IPC Medium Density)
footprint M08A_L (SOIC, 8-Leads, Body 4.9x3.9mm, Pitch 1.27mm, IPC High Density)
footprint M08A_M (SOIC, 8-Leads, Body 4.9x3.9mm, Pitch 1.27mm, IPC Low Density)
pins: 1 OUT A (out), 2 IN A (in), 3 BYPASS, 4 GND (power), 5 SD (in), 6 IN B (in), 7 OUT B (out), 8 VDD (power)

## LM4881M
designator U?
Boomer Dual 200 mW Headphone Amplifier with Shutdown Mode; PartNumber: LM4881M; Manufacturer: National Semiconductor; CompType: Audio IC; PackageTopMarking: NSZXTT*LM48*81M; Published: 4-Dec-2008; DatasheetVersion: Sep-2004; PackageVersion: revL, Sep-2006; PackageReference: M08A; PackageDescription: SOIC Narrow, 4.9 x 3.9 x 1.45mm, 8 Lead, 1.27mm Pitch; RoHS: Y; PinCount: 8; DigiKeyPartNumber: LM4881M-ND; Code_JEDEC: MS-012-AA; Code_IPC: SOIC127P600-8; ComponentLink1Description: LM4881 Datasheet; ComponentLink1URL: http://www.national.com/ds/LM/LM4881.pdf; ComponentLink2Description: LM4881 Web Page; ComponentLink2URL: http://www.national.com/pf/LM/LM4881.html; ComponentLink3Description: M08A Package Page; ComponentLink3URL: http://www.national.com/packaging/folders/m08a.html
footprint M08A_N (SOIC, 8-Leads, Body 4.9x3.9mm, Pitch 1.27mm, IPC Medium Density)
footprint M08A_L (SOIC, 8-Leads, Body 4.9x3.9mm, Pitch 1.27mm, IPC High Density)
footprint M08A_M (SOIC, 8-Leads, Body 4.9x3.9mm, Pitch 1.27mm, IPC Low Density)
pins: 1 OUT A (out), 2 IN A (in), 3 BYPASS, 4 GND (power), 5 SD (in), 6 IN B (in), 7 OUT B (out), 8 VDD (power)

## LM4881MM
designator U?
Boomer Dual 200 mW Headphone Amplifier with Shutdown Mode; PartNumber: LM4881MM; Manufacturer: National Semiconductor; CompType: Audio IC; PackageTopMarking: ZXTT*Z81; Published: 4-Dec-2008; DatasheetVersion: Sep-2004; PackageVersion: revF, Apr-2008; PackageReference: MUA08A; PackageDescription: MINI SOIC, .118 x .118 x .034in, 8 Lead, .0256in Pitch; RoHS: O; PinCount: 8; DigiKeyPartNumber: LM4881MMCT-ND; Code_JEDEC: MO-187-AA; ComponentLink1Description: LM4881 Datasheet; ComponentLink1URL: http://www.national.com/ds/LM/LM4881.pdf; ComponentLink2Description: LM4881 Web Page; ComponentLink2URL: http://www.national.com/pf/LM/LM4881.html; ComponentLink3Description: MUA08A Package Page; ComponentLink3URL: http://www.national.com/packaging/folders/mua08a.html
footprint MUA08A_N (TSOP, 8-Leads, Body 3x3mm, Pitch 0.65mm, IPC Medium Density)
footprint MUA08A_L (TSOP, 8-Leads, Body 3x3mm, Pitch 0.65mm, IPC High Density)
footprint MUA08A_M (TSOP, 8-Leads, Body 3x3mm, Pitch 0.65mm, IPC Low Density)
pins: 1 BYPASS, 2 GND (power), 3 SD (in), 4 VIN B (in), 5 OUT B (out), 6 VDD (power), 7 OUT A (out), 8 VIN A (in)

## LM4883SQ
designator U?
Dual 2.1W Audio Amplifier Plus Stereo Headphone Function; PartNumber: LM4883SQ; Manufacturer: National Semiconductor; CompType: Audio IC; PackageTopMarking: NS*UZXYTT*L4883SQ; Published: 4-Dec-2008; DatasheetVersion: Nov-2004; PackageVersion: revA, Oct-2003; PackageReference: SQA24B; PackageDescription: LLP, Plastic, Quad, 5 x 4 x 0.8mm Body, 24 Lead, 0.5mm Pitch, No Pullback; RoHS: Y; PinCount: 24; DigiKeyPartNumber: LM4883SQ-ND; Code_JEDEC: MO-220-WGHD-1; ComponentLink1Description: LM4883 Datasheet; ComponentLink1URL: http://www.national.com/ds/LM/LM4883.pdf; ComponentLink2Description: LM4883 Web Page; ComponentLink2URL: http://www.national.com/pf/LM/LM4883.html; ComponentLink3Description: SQA24B Package Page; ComponentLink3URL: http://www.national.com/packaging/folders/sqa24b.html
footprint SQA24B (QFN, 24-Leads, Body 5x4mm, Pitch 0.5mm, NSC Recommended)
pins: 1 NC, 2 +OUT A (out), 3 VDD (power), 4 -OUT A (out), 5 -IN A (in), 6 NC, 7 +IN A (in), 8 GND (power), 9 -IN A2 (in), 10 MUX CNTRL (in), 11 -IN B2 (in), 12 GND (power), 13 +IN B (in), 14 BYPASS, 15 -IN B (in), 16 -OUT B (out), 17 VDD (power), 18 +OUT B (out), 19 GND (power), 20 HP-IN (in), 21 GND (power), 22 GND (power), 23 SD (in), 24 GND (power), 25 DAP (power)

## LM4884MH
designator U?
2.1W Differential Input, BTL Output Stereo Audio Amplifier with RF Suppression and Shutdown; PartNumber: LM4884MH; Manufacturer: National Semiconductor; CompType: Audio IC; PackageTopMarking: NSUZXYTT*LM4884*MH; Published: 4-Dec-2008; DatasheetVersion: Apr-2005; PackageVersion: revC, Jul-2006; PackageReference: MXA20A; PackageDescription: Molded TSSOP, Jedec, 6.5 x 4.4 x 0.9mm Body, 20 Lead, 0.65mm Pitch, Exposed Pad; RoHS: Y; PinCount: 20; DigiKeyPartNumber: LM4884MH-ND; Code_JEDEC: MO-153-ACT; ComponentLink1Description: LM4884 Datasheet; ComponentLink1URL: http://www.national.com/ds/LM/LM4884.pdf; ComponentLink2Description: LM4884 Web Page; ComponentLink2URL: http://www.national.com/pf/LM/LM4884.html; ComponentLink3Description: MXA20A Package Page; ComponentLink3URL: http://www.national.com/packaging/folders/mxa20a.html
footprint MXA20A_N (TSOP, 20-Leads, Body 6.5x4.4mm, Pitch 0.65mm, Exposed Pad, IPC Medium Density)
footprint MXA20A_L (TSOP, 20-Leads, Body 6.5x4.4mm, Pitch 0.65mm, Exposed Pad, IPC High Density)
footprint MXA20A_M (TSOP, 20-Leads, Body 6.5x4.4mm, Pitch 0.65mm, Exposed Pad, IPC Low Density)
pins: 1 GND (power), 2 GAIN0 (in), 3 GAIN1 (in), 4 LOUT+ (out), 5 LIN- (in), 6 PVDD (power), 7 RIN+ (in), 8 LOUT- (out), 9 LIN+ (in), 10 BYPASS, 11 GND (power), 12 NC, 13 GND (power), 14 ROUT- (out), 15 PVDD (power), 16 VDD (power), 17 RIN- (in), 18 ROUT+ (out), 19 ~{SD} (in), 20 GND (power), 21 DAP (power)

## LM4888SQ
designator U?
Dual 2.1W Audio Amplifier Plus Stereo Headphone &amp; 3D Enhancement; PartNumber: LM4888SQ; Manufacturer: National Semiconductor; CompType: Audio IC; PackageTopMarking: NS*UZXYTT*L4888SQ; Published: 4-Dec-2008; DatasheetVersion: Mar-2006; PackageVersion: revA, Sep-2003; PackageReference: SQA24C; PackageDescription: LLP, Plastic, Quad, 4 x 4 x 0.8mm Body, 24 Lead, 0.5mm Pitch, No Pullback, Custom; RoHS: Y; PinCount: 24; DigiKeyPartNumber: LM4888SQCT-ND; Code_JEDEC: MO-220-WGGD-2; ComponentLink1Description: LM4888 Datasheet; ComponentLink1URL: http://www.national.com/ds/LM/LM4888.pdf; ComponentLink2Description: LM4888 Web Page; ComponentLink2URL: http://www.national.com/pf/LM/LM4888.html; ComponentLink3Description: SQA24C Package Page; ComponentLink3URL: http://www.national.com/packaging/folders/sqa24c.html
footprint SQA24C (QFN, 24-Leads, Body 4x4mm, Pitch 0.5mm, NSC Recommended)
pins: 1 GND (power), 2 +OUT A (out), 3 VDD (power), 4 -OUT A (out), 5 IN A1 (in), 6 IN A (in), 7 GND (power), 8 IN A2 (in), 9 3D CONTROL (in), 10 IN B2 (in), 11 GND (power), 12 IN B (in), 13 BYPASS, 14 IN B1 (in), 15 -OUT B (out), 16 VDD (power), 17 +OUT B (out), 18 GND (power), 19 GND (power), 20 HP SENSE (in), 21 HP LOGIC (in), 22 GND (power), 23 ~{SD} (in), 24 GND (power), 25 DAP (power)

## LM4889MA
designator U?
1 Watt Audio Power Amplifier; PartNumber: LM4889MA; Manufacturer: National Semiconductor; CompType: Audio IC; PackageTopMarking: NSZXTT*LM48*89MA; Published: 4-Dec-2008; DatasheetVersion: Nov-2006; PackageVersion: revL, Sep-2006; PackageReference: M08A; PackageDescription: SOIC Narrow, 4.9 x 3.9 x 1.45mm, 8 Lead, 1.27mm Pitch; RoHS: Y; PinCount: 8; DigiKeyPartNumber: LM4889MA-ND; Code_JEDEC: MS-012-AA; Code_IPC: SOIC127P600-8; ComponentLink1Description: LM4889 Datasheet; ComponentLink1URL: http://www.national.com/ds/LM/LM4889.pdf; ComponentLink2Description: LM4889 Web Page; ComponentLink2URL: http://www.national.com/pf/LM/LM4889.html; ComponentLink3Description: M08A Package Page; ComponentLink3URL: http://www.national.com/packaging/folders/m08a.html
footprint M08A_N (SOIC, 8-Leads, Body 4.9x3.9mm, Pitch 1.27mm, IPC Medium Density)
footprint M08A_L (SOIC, 8-Leads, Body 4.9x3.9mm, Pitch 1.27mm, IPC High Density)
footprint M08A_M (SOIC, 8-Leads, Body 4.9x3.9mm, Pitch 1.27mm, IPC Low Density)
pins: 1 ~{SD} (in), 2 BYPASS, 3 +IN (in), 4 -IN (in), 5 VO1 (out), 6 VDD (power), 7 GND (power), 8 VO2 (out)

## LM4889MM
designator U?
1 Watt Audio Power Amplifier; PartNumber: LM4889MM; Manufacturer: National Semiconductor; CompType: Audio IC; PackageTopMarking: ZXTT*GA2; Published: 4-Dec-2008; DatasheetVersion: Nov-2006; PackageVersion: revF, Apr-2008; PackageReference: MUA08A; PackageDescription: MINI SOIC, .118 x .118 x .034in, 8 Lead, .0256in Pitch; RoHS: O; PinCount: 8; DigiKeyPartNumber: LM4889MMCT-ND; Code_JEDEC: MO-187-AA; ComponentLink1Description: LM4889 Datasheet; ComponentLink1URL: http://www.national.com/ds/LM/LM4889.pdf; ComponentLink2Description: LM4889 Web Page; ComponentLink2URL: http://www.national.com/pf/LM/LM4889.html; ComponentLink3Description: MUA08A Package Page; ComponentLink3URL: http://www.national.com/packaging/folders/mua08a.html
footprint MUA08A_N (TSOP, 8-Leads, Body 3x3mm, Pitch 0.65mm, IPC Medium Density)
footprint MUA08A_L (TSOP, 8-Leads, Body 3x3mm, Pitch 0.65mm, IPC High Density)
footprint MUA08A_M (TSOP, 8-Leads, Body 3x3mm, Pitch 0.65mm, IPC Low Density)
pins: 1 ~{SD} (in), 2 BYPASS, 3 +IN (in), 4 -IN (in), 5 VO1 (out), 6 VDD (power), 7 GND (power), 8 VO2 (out)

## LM4890M
designator U?
1 Watt Audio Power Amplifier; PartNumber: LM4890M; Manufacturer: National Semiconductor; CompType: Audio IC; PackageTopMarking: NSZXTT*LM48*90M; Published: 4-Dec-2008; DatasheetVersion: Jul-2006; PackageVersion: revL, Sep-2006; PackageReference: M08A; PackageDescription: SOIC Narrow, 4.9 x 3.9 x 1.45mm, 8 Lead, 1.27mm Pitch; RoHS: O; PinCount: 8; DigiKeyPartNumber: LM4890M-ND; Code_JEDEC: MS-012-AA; Code_IPC: SOIC127P600-8; ComponentLink1Description: LM4890 Datasheet; ComponentLink1URL: http://www.national.com/ds/LM/LM4890.pdf; ComponentLink2Description: LM4890 Web Page; ComponentLink2URL: http://www.national.com/pf/LM/LM4890.html; ComponentLink3Description: M08A Package Page; ComponentLink3URL: http://www.national.com/packaging/folders/m08a.html
footprint M08A_N (SOIC, 8-Leads, Body 4.9x3.9mm, Pitch 1.27mm, IPC Medium Density)
footprint M08A_L (SOIC, 8-Leads, Body 4.9x3.9mm, Pitch 1.27mm, IPC High Density)
footprint M08A_M (SOIC, 8-Leads, Body 4.9x3.9mm, Pitch 1.27mm, IPC Low Density)
pins: 1 ~{SD} (in), 2 BYPASS, 3 +IN (in), 4 -IN (in), 5 VO1 (out), 6 VDD (power), 7 GND (power), 8 VO2 (out)

## LM4890MM
designator U?
1 Watt Audio Power Amplifier; PartNumber: LM4890MM; Manufacturer: National Semiconductor; CompType: Audio IC; PackageTopMarking: ZXTT*G90; Published: 4-Dec-2008; DatasheetVersion: Jul-2006; PackageVersion: revF, Apr-2008; PackageReference: MUA08A; PackageDescription: MINI SOIC, .118 x .118 x .034in, 8 Lead, .0256in Pitch; RoHS: Y; PinCount: 8; DigiKeyPartNumber: LM4890MMCT-ND; Code_JEDEC: MO-187-AA; ComponentLink1Description: LM4890 Datasheet; ComponentLink1URL: http://www.national.com/ds/LM/LM4890.pdf; ComponentLink2Description: LM4890 Web Page; ComponentLink2URL: http://www.national.com/pf/LM/LM4890.html; ComponentLink3Description: MUA08A Package Page; ComponentLink3URL: http://www.national.com/packaging/folders/mua08a.html
footprint MUA08A_N (TSOP, 8-Leads, Body 3x3mm, Pitch 0.65mm, IPC Medium Density)
footprint MUA08A_L (TSOP, 8-Leads, Body 3x3mm, Pitch 0.65mm, IPC High Density)
footprint MUA08A_M (TSOP, 8-Leads, Body 3x3mm, Pitch 0.65mm, IPC Low Density)
pins: 1 ~{SD} (in), 2 BYPASS, 3 +IN (in), 4 -IN (in), 5 VO1 (out), 6 VDD (power), 7 GND (power), 8 VO2 (out)

## LM4891M
designator U?
1 Watt Audio Power Amplifier; PartNumber: LM4891M; Manufacturer: National Semiconductor; CompType: Audio IC; PackageTopMarking: NSZXTT*LM48*91M; Published: 4-Dec-2008; DatasheetVersion: Oct-2002; PackageVersion: revL, Sep-2006; PackageReference: M08A; PackageDescription: SOIC Narrow, 4.9 x 3.9 x 1.45mm, 8 Lead, 1.27mm Pitch; RoHS: Y; PinCount: 8; DigiKeyPartNumber: LM4891M-ND; Code_JEDEC: MS-012-AA; Code_IPC: SOIC127P600-8; ComponentLink1Description: LM4891 Datasheet; ComponentLink1URL: http://www.national.com/ds/LM/LM4891.pdf; ComponentLink2Description: LM4891 Web Page; ComponentLink2URL: http://www.national.com/pf/LM/LM4891.html; ComponentLink3Description: M08A Package Page; ComponentLink3URL: http://www.national.com/packaging/folders/m08a.html
footprint M08A_N (SOIC, 8-Leads, Body 4.9x3.9mm, Pitch 1.27mm, IPC Medium Density)
footprint M08A_L (SOIC, 8-Leads, Body 4.9x3.9mm, Pitch 1.27mm, IPC High Density)
footprint M08A_M (SOIC, 8-Leads, Body 4.9x3.9mm, Pitch 1.27mm, IPC Low Density)
pins: 1 SD (in), 2 BYPASS, 3 +IN (in), 4 -IN (in), 5 VO1 (out), 6 VDD (power), 7 GND (power), 8 VO2 (out)

## LM4892ITP
designator U?
1 Watt Audio Power Amplifier with Headphone Sense; PartNumber: LM4892ITP; Manufacturer: National Semiconductor; CompType: Audio IC; PackageTopMarking: XVG*I E1; Published: 4-Dec-2008; DatasheetVersion: Oct-2002; PackageVersion: revA, Mar-2002; PackageReference: TPA08DDA; PackageDescription: Thin Micro SMD, 8 Bump, 0.5mm Pitch; RoHS: Y; PinCount: 8; DigiKeyPartNumber: LM4892ITPCT-ND; Code_JEDEC: MO-211-BC; ComponentLink1Description: LM4892 Datasheet; ComponentLink1URL: http://www.national.com/ds/LM/LM4892.pdf; ComponentLink2Description: LM4892 Web Page; ComponentLink2URL: http://www.national.com/pf/LM/LM4892.html; ComponentLink3Description: TPA08DDA Package Page; ComponentLink3URL: http://www.national.com/packaging/folders/tpa08dda.html
footprint TPA08DDA (Micro SMD, 8-Leads, Body 1.36x1.36mm, Pitch 0.5mm, NSC Recommended)
pins: A1 -IN (in), A2 VO1 (out), A3 HP SENSE (in), B1 GND (power), B3 VDD (power), C1 BYPASS, C2 VO2 (out), C3 ~{SD} (in)

## LM4892M
designator U?
1 Watt Audio Power Amplifier with Headphone Sense; PartNumber: LM4892M; Manufacturer: National Semiconductor; CompType: Audio IC; PackageTopMarking: NSZXTT*LM48*92M; Published: 4-Dec-2008; DatasheetVersion: Oct-2002; PackageVersion: revL, Sep-2006; PackageReference: M08A; PackageDescription: SOIC Narrow, 4.9 x 3.9 x 1.45mm, 8 Lead, 1.27mm Pitch; RoHS: Y; PinCount: 8; DigiKeyPartNumber: LM4892M-ND; Code_JEDEC: MS-012-AA; Code_IPC: SOIC127P600-8; ComponentLink1Description: LM4892 Datasheet; ComponentLink1URL: http://www.national.com/ds/LM/LM4892.pdf; ComponentLink2Description: LM4892 Web Page; ComponentLink2URL: http://www.national.com/pf/LM/LM4892.html; ComponentLink3Description: M08A Package Page; ComponentLink3URL: http://www.national.com/packaging/folders/m08a.html
footprint M08A_N (SOIC, 8-Leads, Body 4.9x3.9mm, Pitch 1.27mm, IPC Medium Density)
footprint M08A_L (SOIC, 8-Leads, Body 4.9x3.9mm, Pitch 1.27mm, IPC High Density)
footprint M08A_M (SOIC, 8-Leads, Body 4.9x3.9mm, Pitch 1.27mm, IPC Low Density)
pins: 1 ~{SD} (in), 2 BYPASS, 3 HP SENSE (in), 4 -IN (in), 5 VO1 (out), 6 VDD (power), 7 GND (power), 8 VO2 (out)